# EAGLE library part BNO085 (library all-chips)
BNO085 CEVA Intelligent 9-axis absolute orientation sensor
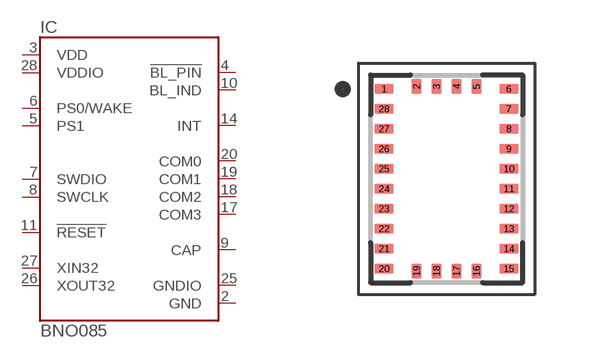
[diagram p2: symbol with the pads of LGA28_5.20X3.80MM; footprint LGA28_5.20X3.80MM]

Designator prefix IC

## BNO085  [LGA28_5.20X3.80MM]
2  GND  pwr
3  VDD  pwr
4  !BL_PIN  in
5  PS1  in
6  PS0/WAKE  in
7  SWDIO
8  SWCLK  in
9  CAP  pas
10  BL_IND  out
11  !RESET  in
14  INT  out
17  COM3  in
18  COM2
19  COM1
20  COM0
25  GNDIO  pwr
26  XOUT32  out
27  XIN32  in
28  VDDIO  pwr

## Footprint LGA28_5.20X3.80MM (pad centres in mm)
https://www.nxp.com/docs/en/package-information/SOT358-1.pdf
smd 0.475 x 0.25: 1 -1.56,2.25; 6 1.56,2.25; 7 1.56,1.75; 8 1.56,1.25; 9 1.56,0.75; 10 1.56,0.25; 11 1.56,-0.25; 12 1.56,-0.75; 13 1.56,-1.25; 14 1.56,-1.75; 15 1.56,-2.25; 20 -1.56,-2.25; 21 -1.56,-1.75; 22 -1.56,-1.25; 23 -1.56,-0.75; 24 -1.56,-0.25; 25 -1.56,0.25; 26 -1.56,0.75; 27 -1.56,1.25; 28 -1.56,1.75
smd 0.25 x 0.375: 2 -0.75,2.31; 3 -0.25,2.31; 4 0.25,2.31; 5 0.75,2.31; 16 0.75,-2.31; 17 0.25,-2.31; 18 -0.25,-2.31; 19 -0.75,-2.31